# EAGLE library part RJ45 (library FSAE Eletric)
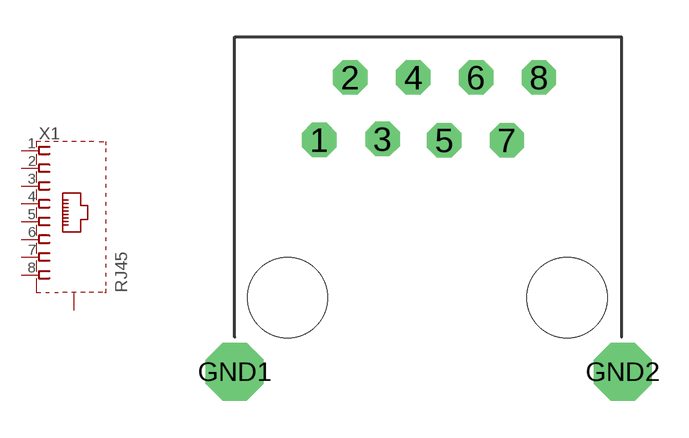
[diagram p5: symbol with the pads of 5555153-1; footprint 5555153-1]

Designator prefix X1

## RJ45  [5555153-1]
1  1  pas
2  2  pas
3  3  pas
4  4  pas
5  5  pas
6  6  pas
7  7  pas
8  8  pas
GND1  GND  pas
GND2  GND  pas

## Footprint 5555153-1 (pad centres in mm)
drill 0.89 octagon: 1 3.43,9.41; 2 4.69,11.95; 3 6,9.45; 4 7.25,11.95; 5 8.5,9.4; 6 9.8,11.95; 7 11.05,9.4; 8 12.35,11.95
drill 1.57 octagon: GND1 0,0; GND2 15.75,0
hole 3.25 at 13.5,3.01
hole 3.25 at 2.14,3.01